# Altium integrated library Connectors.IntLib: 9 symbols
Pins are listed as number, name and electrical type; pins without a type are passive.

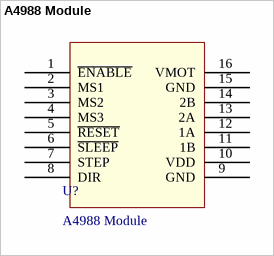
[diagram p0: symbol A4988 Module]

## A4988 Module
designator U?
Reference: https://www.pololu.com/product/1182
footprint A4988 Header
pins: 1 ~{ENABLE}, 2 MS1, 3 MS2, 4 MS3, 5 ~{RESET}, 6 ~{SLEEP}, 7 STEP, 8 DIR, 9 GND, 10 VDD, 11 1B, 12 1A, 13 2A, 14 2B, 15 GND, 16 VMOT


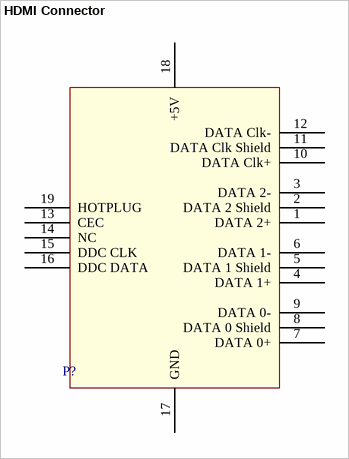
[diagram p1: symbol HDMI Connector]

## HDMI Connector
designator P?, comment HDMI  (value not drawn)
HDMI Connector; Manufacturer Part No.: 10029449-111RLF; Digi-Key Part No.: 609-4614-1-ND
footprint HDMI Connector (Amphenol HDMI Connector)
pins: 1 DATA 2+, 2 DATA 2 Shield, 3 DATA 2-, 4 DATA 1+, 5 DATA 1 Shield, 6 DATA 1-, 7 DATA 0+, 8 DATA 0 Shield, 9 DATA 0-, 10 DATA Clk+, 11 DATA Clk Shield, 12 DATA Clk-, 13 CEC, 14 NC, 15 DDC CLK, 16 DDC DATA, 17 GND, 18 +5V, 19 HOTPLUG


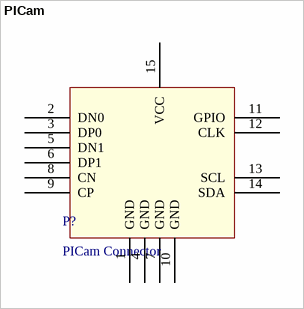
[diagram p2: symbol PICam]

## PICam
designator P?, comment PICam Connector
Raspberry PI Camera Connector (TI Connectivity AMP); Manufacturer Part No.: 1-1734248-5; Digi-Key Part No.: A101418CT-ND
footprint TE AMP Connector
pins: 1 GND, 2 DN0, 3 DP0, 4 GND, 5 DN1, 6 DP1, 7 GND, 8 CN, 9 CP, 10 GND, 11 GPIO, 12 CLK, 13 SCL, 14 SDA, 15 VCC


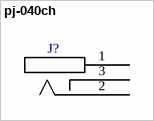
[diagram p3: symbol pj-040ch]

## pj-040ch
designator J?, comment DC Jack  (value not drawn)
pj-040ch; Digi-Key Part No.: CP-040CH-ND; Manufacturer Part No.: PJ-040CH
footprint pj-040ch (PCB-mount NC DC Jack)
pins: 1, 2, 3


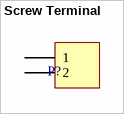
[diagram p4: symbol Screw Terminal]

## Screw Terminal
designator P?  (value not drawn)
Manufacturer Part No.: 1935161; Digi-Key Part No.: 277-1667-ND
footprint Screw Terminal (Phoenix Screw Terminal)
pins: 1, 2


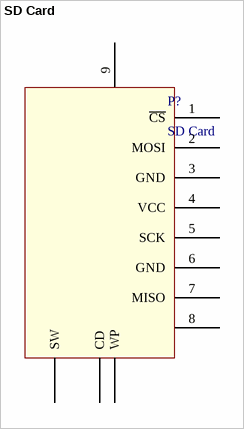
[diagram p5: symbol SD Card]

## SD Card
designator P?
footprint SD_CARD
pins: 1 ~{CS}, 2 MOSI, 3 GND, 4 VCC, 5 SCK, 6 GND, 7 MISO, 8, 9, CD, SW, WP


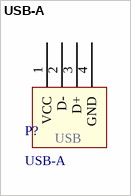
[diagram p6: symbol USB-A]

## USB-A
designator P?
USB-A SMT Connector
footprint USB-A (USB-A SMT Connector)
pins: 1 VCC, 2 D-, 3 D+, 4 GND
text: USB


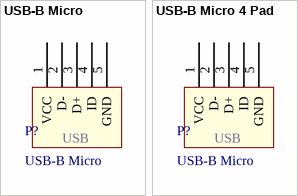
[diagram p7: symbols USB-B Micro to USB-B Micro 4 Pad]

## USB-B Micro
designator P?
USB_B SMT Connector
footprint USB_B_micro
pins: 1 VCC, 2 D-, 3 D+, 4 ID, 5 GND
text: USB

## USB-B Micro 4 Pad
designator P?, comment USB-B Micro
USB-B SMT Connector; Manufacturer Part No.: 0476100001; Digi-Key Part No.: WM14338CT-ND
footprint USB B Micro WM14338CT-ND (MOLEX Micro USB Connector WM14338CT-ND)
pins: 1 VCC, 2 D-, 3 D+, 4 ID, 5 GND
text: USB